# Altium schematic symbol library NCP15XH103F03RC.SchLib: 1 symbol
Pins are listed as number, name and electrical type; pins without a type are passive.

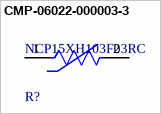
[diagram p0: symbol CMP-06022-000003-3]

## CMP-06022-000003-3
designator R?, comment NCP15XH103F03RC
NTC Thermistor for Temperature Sensor, 0402, 10kΩ, 1%, 0.1mA, 5V; Max Power Dissipation: 100mW; Resistance: 10kR; Current Rating: 310uA; Length: 1mm; Min Operating Temperature: -40°C; Max Operating Temperature: 125°C; Resistance Tolerance: 1%; Lead Free: Lead Free; Radiation Hardening: No; Case Code (Imperial): 0402; Depth: 0.5mm; Tolerance: 1%; Packaging: Tape and Reel; Package Quantity: 10000; Series: NCP; Number of Pins: 2; Power Rating: 100mW; Case/Package: 0402; Case Code (Metric): 1005; Height: 0.5mm; Termination: SMD/SMT; RoHS Compliant: Yes; REACH SVHC: No SVHC; Mount: Surface Mount
footprint FP-NCP15-NCU15-0_05-IPC_C
footprint FP-NCP15-NCU15-0_05-IPC_B
footprint FP-NCP15-NCU15-0_05-MFG
footprint FP-NCP15-NCU15-0_05-IPC_A
pins: 1, 2